# Altium schematic symbol library NPN Transistor.SchLib: 1 symbol
Pins are listed as number, name and electrical type; pins without a type are passive.

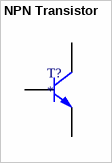
[diagram p0: symbol NPN Transistor]

## NPN Transistor
designator T?
pins: 1 E, 2 B, 3 C